# Altium schematic symbol library SRR1050HA-390Y.SchLib: 1 symbol
Pins are listed as number, name and electrical type; pins without a type are passive.

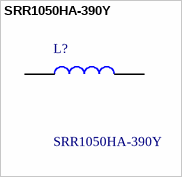
[diagram p0: symbol SRR1050HA-390Y]

## SRR1050HA-390Y
designator L?
Ind,10x10.2x4.8mm,39uH+/-30%,2.25A,shd; Manufacturer_Name: Bourns; Geometry.Height: 5.1mm; Mouser Part Number: *; Mouser Price/Stock: *; Manufacturer_Part_Number: SRR1050HA-390Y; Datasheet Link: http://www.bourns.com/docs/Product-Datasheets/SRR1050HA.pdf
footprint INDPM102100X510N
pins: 1, 2